# EAGLE library part JTAG_FPGA (library robotter_connector)
HARTING
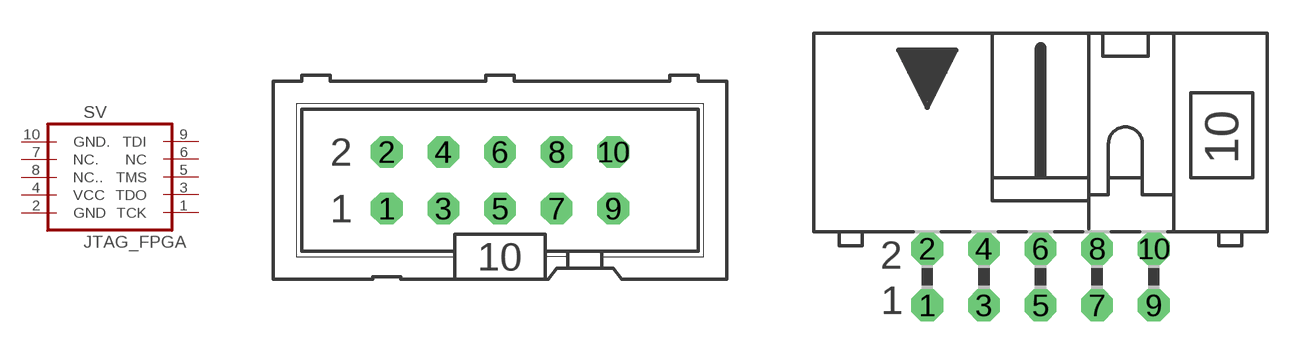
[diagram p6: symbol with the pads of ML10; footprints ML10, ML10L]

Designator prefix SV

## JTAG_FPGA  [ML10]
1  TCK  pas
2  GND  pas
3  TDO  pas
4  VCC  pas
5  TMS  pas
6  NC  pas
7  NC.  pas
8  NC..  pas
9  TDI  pas
10  GND.  pas

## JTAG_FPGAL  [ML10L]
Pads as for ML10

## Footprint ML10 (pad centres in mm)
HARTING
drill 0.914 octagon: 1 -5.08,-1.27; 2 -5.08,1.27; 3 -2.54,-1.27; 4 -2.54,1.27; 5 0,-1.27; 6 0,1.27; 7 2.54,-1.27; 8 2.54,1.27; 9 5.08,-1.27; 10 5.08,1.27

## Footprint ML10L (pad centres in mm)
HARTING
drill 0.914 octagon: 1 -5.08,-1.27; 2 -5.08,1.27; 3 -2.54,-1.27; 4 -2.54,1.27; 5 0,-1.27; 6 0,1.27; 7 2.54,-1.27; 8 2.54,1.27; 9 5.08,-1.27; 10 5.08,1.27